# EAGLE library part 4R-N (library C2500)
Array Chip Resistor Source: RS Component / Phycomp
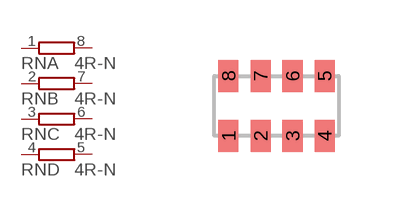
[diagram p3: symbol with the pads of CAT16; footprint CAT16]

Designator prefix RN; gates A=R1NV B=R1NV C=R1NV D=R1NV

## 4R-NCAT16 (OC_FARNELL: unknown; OC_NEWARK: unknown)  [CAT16]
1  A:1  pas
2  B:1  pas
3  C:1  pas
4  D:1  pas
5  D:2  pas
6  C:2  pas
7  B:2  pas
8  A:2  pas

## Footprint CAT16 (pad centres in mm)
BOURNS Chip Resistor Array Source: RS Component / BUORNS
smd 0.5 x 0.8: 1 -1.2,-0.75; 2 -0.4,-0.75; 3 0.4,-0.75; 4 1.2,-0.75; 5 1.2,0.75; 6 0.4,0.75; 7 -0.4,0.75; 8 -1.2,0.75